# Altium schematic symbol library Connectors.SchLib: 74 symbols
Pins are listed as number, name and electrical type; pins without a type are passive.

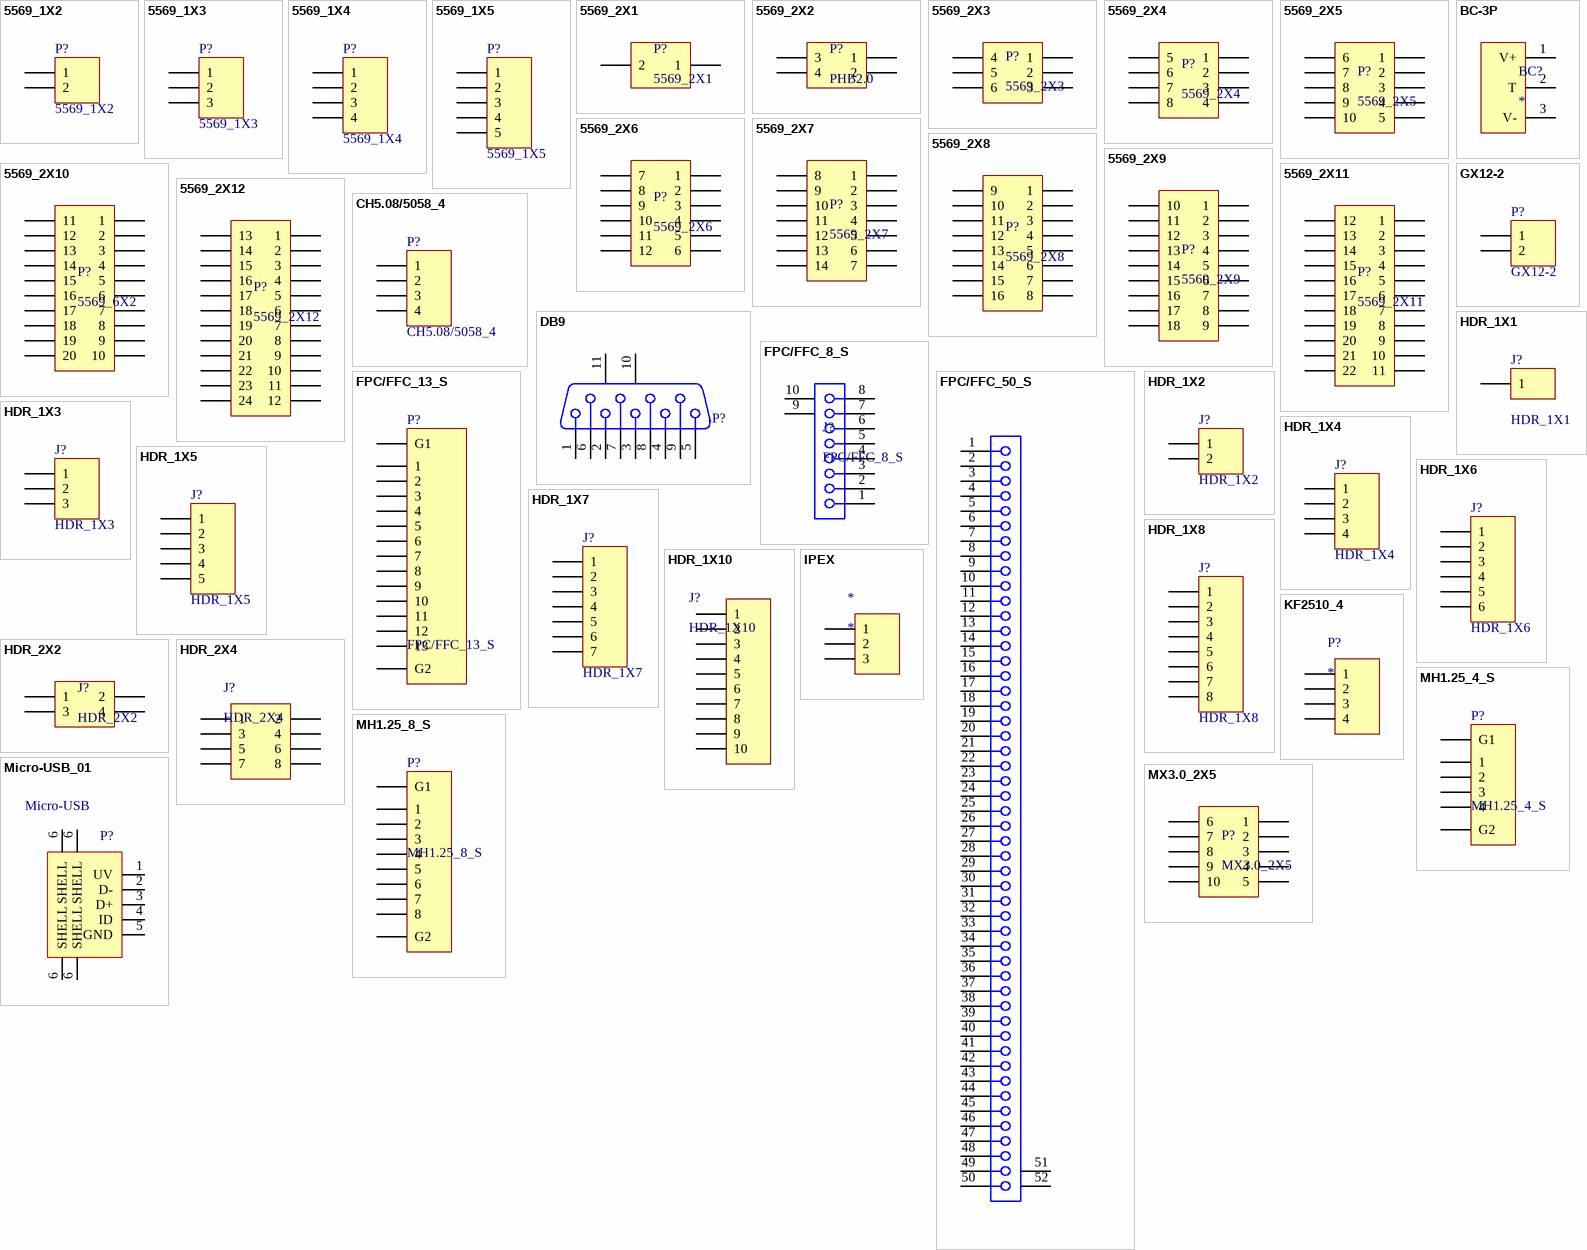
[diagram p0: symbols 5569_1X2 to MX3.0_2X5]

## 5569_1X2
designator P?
5569 Connector, 2-Pin, Single row; LatestRevisionDate: 17-Jul-2002; LatestRevisionNote: Re-released for DXP Platform.; Publisher: Altium Limited
footprint 5569_1X2_R (5569 Connector, 2-Pin, Single row, Right Angle)
pins: 1, 2

## 5569_1X3
designator P?
5569 Connector, 3-Pin, Single row; LatestRevisionDate: 17-Jul-2002; LatestRevisionNote: Re-released for DXP Platform.; Publisher: Altium Limited
footprint 5569_1X3_R (5569 Connector, 3-Pin, Single row, Right Angle)
pins: 1, 2, 3

## 5569_1X4
designator P?
5569 Connector, 4-Pin, Single row; LatestRevisionDate: 17-Jul-2002; LatestRevisionNote: Re-released for DXP Platform.; Publisher: Altium Limited
footprint 5569_1X4_R (5569 Connector, 4-Pin, Single row, Right Angle)
pins: 1, 2, 3, 4

## 5569_1X5
designator P?
5569 Connector, 5-Pin, Single row; LatestRevisionDate: 17-Jul-2002; LatestRevisionNote: Re-released for DXP Platform.; Publisher: Altium Limited
footprint 5569_1X5_R (5569 Connector, 5-Pin, Single row, Right Angle)
pins: 1, 2, 3, 4, 5

## 5569_2X1
designator P?
5569 Connector, 1-Pin, Dual row
footprint 5569_2X1_R (5569 Connector, 1-Pin, Dual row, Right Angle)
footprint 5569_2X1_V (5569 Connector, 1-Pin, Dual row, Vertical)
pins: 1, 2

## 5569_2X2
designator P?, comment PHB2.0
5569 Connector, 2-Pin, Dual row
footprint 5569_2X2_R (5569 Connector, 2-Pin, Dual row, Right Angle)
footprint 5569_2X2_V (5569 Connector, 2-Pin, Dual row, Vertical)
pins: 1, 2, 3, 4

## 5569_2X3
designator P?
5569 Connector, 3-Pin, Dual row
footprint 5569_2X3_R (5569 Connector, 3-Pin, Dual row, Right Angle)
footprint 5569_2X3_V (5569 Connector, 3-Pin, Dual row, Vertical)
pins: 1, 2, 3, 4, 5, 6

## 5569_2X4
designator P?
5569 Connector, 4-Pin, Dual row
footprint 5569_2X4_R (5569 Connector, 4-Pin, Dual row, Right Angle)
footprint 5569_2X4_V (5569 Connector, 4-Pin, Dual row, Vertical)
pins: 1, 2, 3, 4, 5, 6, 7, 8

## 5569_2X5
designator P?
5569 Connector, 5-Pin, Dual row
footprint 5569_2X5_R (5569 Connector, 5-Pin, Dual row, Right Angle)
footprint 5569_2X5_V (5569 Connector, 5-Pin, Dual row, Vertical)
pins: 1, 2, 3, 4, 5, 6, 7, 8, 9, 10

## 5569_2X6
designator P?
5569 Connector, 6-Pin, Dual row
footprint 5569_2X6_R (5569 Connector, 6-Pin, Dual row, Right Angle)
footprint 5569_2X6_V (5569 Connector, 6-Pin, Dual row, Vertical)
pins: 1, 2, 3, 4, 5, 6, 7, 8, 9, 10, 11, 12

## 5569_2X7
designator P?
5569 Connector, 7-Pin, Dual row
footprint 5569_2X7_R (5569 Connector, 7-Pin, Dual row, Right Angle)
footprint 5569_2X7_V (5569 Connector, 7-Pin, Dual row, Vertical)
pins: 1, 2, 3, 4, 5, 6, 7, 8, 9, 10, 11, 12, 13, 14

## 5569_2X8
designator P?
5569 Connector, 8-Pin, Dual row
footprint 5569_2X8_R (5569 Connector, 8-Pin, Dual row, Right Angle)
footprint 5569_2X8_V (5569 Connector, 8-Pin, Dual row, Vertical)
pins: 1, 2, 3, 4, 5, 6, 7, 8, 9, 10, 11, 12, 13, 14, 15, 16

## 5569_2X9
designator P?
5569 Connector, 9-Pin, Dual row
footprint 5569_2X9_R (5569 Connector, 9-Pin, Dual row, Right Angle)
footprint 5569_2X9_V (5569 Connector, 9-Pin, Dual row, Vertical)
pins: 1, 2, 3, 4, 5, 6, 7, 8, 9, 10, 11, 12, 13, 14, 15, 16, 17, 18

## 5569_2X10
designator P?, comment 5569_6X2
5569 Connector, 10-Pin, Dual row
footprint 5569_2X10_R (5569 Connector, 10-Pin, Dual row, Right Angle)
footprint 5569_2X10_V (5569 Connector, 10-Pin, Dual row, Vertical)
pins: 1, 2, 3, 4, 5, 6, 7, 8, 9, 10, 11, 12, 13, 14, 15, 16, 17, 18, 19, 20

## 5569_2X11
designator P?
5569 Connector, 11-Pin, Dual row
footprint 5569_2X11_R (5569 Connector, 11-Pin, Dual row, Right Angle)
footprint 5569_2X11_V (5569 Connector, 11-Pin, Dual row, Vertical)
pins: 1, 2, 3, 4, 5, 6, 7, 8, 9, 10, 11, 12, 13, 14, 15, 16, 17, 18, 19, 20, 21, 22

## 5569_2X12
designator P?
5569 Connector, 12-Pin, Dual row
footprint 5569_2X12_R (5569 Connector, 12-Pin, Dual row, Right Angle)
footprint 5569_2X12_V (5569 Connector, 12-Pin, Dual row, Vertical)
pins: 1, 2, 3, 4, 5, 6, 7, 8, 9, 10, 11, 12, 13, 14, 15, 16, 17, 18, 19, 20, 21, 22, 23, 24

## BC-3P
designator BC?
Battery connector, 3 Pin
footprint BC-3P_3.0PHX6.2H_SR (Battery connector, 3 Pin, 3.0mm Pitch, 5.4mm Hight, Surface mount, Right angle)
pins: 1 V+ (power), 2 T (power), 3 V- (power)

## CH5.08/5058_4
designator P?
CH Connector, 5.08mm Pitch, 4-Pin; LatestRevisionDate: 17-Jul-2002; LatestRevisionNote: Re-released for DXP Platform.; Publisher: Altium Limited
footprint CH5.08/5058_4_V (CH5.08/5058 Connector, 4-Pin, Vertical)
pins: 1, 2, 3, 4

## DB9
designator P?  (value not drawn)
footprint DB9_R_Female
pins: 1, 2, 3, 4, 5, 6, 7, 8, 9, 10 MH1, 11 MH2

## FPC/FFC_8_S
designator J?
FPC/FFC Connector, 8-Pin
footprint FPC/FFC1.0_8_SR (FPC/FFC Connector，1.0mm Pitch，8Pin，Surface mount, Right Angle)
pins: 1, 2, 3, 4, 5, 6, 7, 8, 9 MH1, 10 MH2

## FPC/FFC_13_S
designator P?
FPC/FFC Connector, 13-Pin; LatestRevisionDate: 17-Jul-2002; LatestRevisionNote: Re-released for DXP Platform.; Publisher: Altium Limited
signal-integrity model Connector
footprint FFC/FPC1.0_13_R
pins: 1, 2, 3, 4, 5, 6, 7, 8, 9, 10, 11, 12, 13, G1, G2

## FPC/FFC_50_S
designator J?
FPC/FFC Connector, 50-Pin; PCB_Layout: Complies with manufacturer's FFC recommendation.; Published: 30-May-2008; DatasheetVersion: Aug-2006; PackageVersion: Jan-2004; PackageReference: 541045096; Publisher: Altium Limited; ComponentLink1Description: Manufacturer Link; ComponentLink1URL: http://www.molex.com/; ComponentLink2Description: Datasheet; ComponentLink2URL: http://www.molex.com/pdm_docs/ps/PS-54104-069.pdf; ComponentLink3Description: Packaging Specification; ComponentLink3URL: http://www.molex.com/pdm_docs/sd/541045031_sd.pdf
signal-integrity model FPC-FFC
footprint FFC/FPC0.5_50_R
pins: 1, 2, 3, 4, 5, 6, 7, 8, 9, 10, 11, 12, 13, 14, 15, 16, 17, 18, 19, 20, 21, 22, 23, 24, 25, 26, 27, 28, 29, 30, 31, 32, 33, 34, 35, 36, 37, 38, 39, 40, 41, 42, 43, 44, 45, 46, 47, 48, 49, 50, 51 MH1, 52 MH2

## GX12-2
designator P?
GX12, 2-Pin, Single row; LatestRevisionDate: 17-Jul-2002; LatestRevisionNote: Re-released for DXP Platform.; Publisher: Altium Limited
signal-integrity model Connector
footprint GX12_2_R
pins: 1, 2

## HDR_1X1
designator J?
Header, 2-Pin, Single row; LatestRevisionDate: 17-Jul-2002; LatestRevisionNote: Re-released for DXP Platform.; Publisher: Altium Limited
signal-integrity model Connector
footprint HDR2.54_1X1_V
pins: 1

## HDR_1X2
designator J?
Header, 2-Pin, Single row; LatestRevisionDate: 17-Jul-2002; LatestRevisionNote: Re-released for DXP Platform.; Publisher: Altium Limited
signal-integrity model Connector
footprint HDR2.54_1X2_V (Connector; Header; 2 Position)
pins: 1, 2

## HDR_1X3
designator J?
Header, 3-Pin, Single row; LatestRevisionDate: 17-Jul-2002; LatestRevisionNote: Re-released for DXP Platform.; Publisher: Altium Limited
signal-integrity model Connector
footprint HDR2.54_1X3_V (Connector; Header; 3 Position)
pins: 1, 2, 3

## HDR_1X4
designator J?
Header, 4-Pin, Single row; LatestRevisionDate: 17-Jul-2002; LatestRevisionNote: Re-released for DXP Platform.; Publisher: Altium Limited
signal-integrity model Connector
footprint HDR2.54_1X4_V (Connector; Header; 4 Position)
pins: 1, 2, 3, 4

## HDR_1X5
designator J?
Header, 5-Pin, Single row; LatestRevisionDate: 17-Jul-2002; LatestRevisionNote: Re-released for DXP Platform.; Publisher: Altium Limited
signal-integrity model Connector
footprint HDR2.54_1X5_V (Connector; Header; 5 Position)
pins: 1, 2, 3, 4, 5

## HDR_1X6
designator J?
Header, 6-Pin, Single row; LatestRevisionDate: 17-Jul-2002; LatestRevisionNote: Re-released for DXP Platform.; Publisher: Altium Limited
signal-integrity model Connector
footprint HDR2.54_1X6_V (Connector; Header; 6 Position)
pins: 1, 2, 3, 4, 5, 6

## HDR_1X7
designator J?
Header, 7-Pin, Single row; LatestRevisionDate: 17-Jul-2002; LatestRevisionNote: Re-released for DXP Platform.; Publisher: Altium Limited
signal-integrity model Connector
footprint HDR2.54_1X7_V (Connector; Header; 7 Position)
pins: 1, 2, 3, 4, 5, 6, 7

## HDR_1X8
designator J?
Header, 8-Pin, Single row; LatestRevisionDate: 17-Jul-2002; LatestRevisionNote: Re-released for DXP Platform.; Publisher: Altium Limited
signal-integrity model Connector
footprint HDR2.54_1X8_V (Connector; Header; 8 Position)
pins: 1, 2, 3, 4, 5, 6, 7, 8

## HDR_1X10
designator J?
Header, 10-Pin, Single row
footprint HDR2.54_1X10_V
pins: 1, 2, 3, 4, 5, 6, 7, 8, 9, 10

## HDR_2X2
designator J?
Header, 4-Pin, dual row
footprint HDR2.54_2X2_V (Header, 2.54mm Pitch，8-Pin, Dual row, Vertical)
pins: 1, 2, 3, 4

## HDR_2X4
designator J?
Header, 8-Pin, dual row
footprint HDR2.54_2X4_V
pins: 1, 2, 3, 4, 5, 6, 7, 8

## IPEX
designator *
footprint IPEX
pins: 1, 2, 3

## KF2510_4
designator P?
KF2510 Connector, 4Pin
footprint KF2510_4_V (KF2510 Connnector, 2.54mm pitch, 4Pin, Vertical)
pins: 1, 2, 3, 4

## MH1.25_4_S
designator P?
SH/MH Connector, 1.25mm Pitch, 4-Pin, Surface mount; LatestRevisionDate: 17-Jul-2002; LatestRevisionNote: Re-released for DXP Platform.; Publisher: Altium Limited
footprint SH1.25_4_SR (SH Connector, 1.25mm Pitch, 4 Pin, Surface mount, Right angle)
pins: 1, 2, 3, 4, 5 G1, 6 G2

## MH1.25_8_S
designator P?
SH/MH Connector, 1.25mm Pitch, 8-Pin, Surface mount; LatestRevisionDate: 17-Jul-2002; LatestRevisionNote: Re-released for DXP Platform.; Publisher: Altium Limited
footprint MH1.25_8_SR (SH/MH Connector, 1.25mm Pitch, 8 Pin, Surface mount, Right angle)
pins: 1, 2, 3, 4, 5, 6, 7, 8, 9 G1, 10 G2

## Micro-USB_01
designator P?, comment Micro-USB
Micro-USB Receptacle
footprint Micro-USB_B_SR_01 (Micro-USB, Type B Receptacle, Bottom Mount, Surface Mount)
pins: 1 UV, 2 D-, 3 D+, 4 ID, 5 GND, 6 SHELL, 6 SHELL, 6 SHELL, 6 SHELL

## MX3.0_2X5
designator P?
MX3.0 Connector , 5-Pin, Dual row
footprint MX3.0_2X5_R (MX3.0 Connector , 5-Pin, Dual row, Right angle)
pins: 1, 2, 3, 4, 5, 6, 7, 8, 9, 10

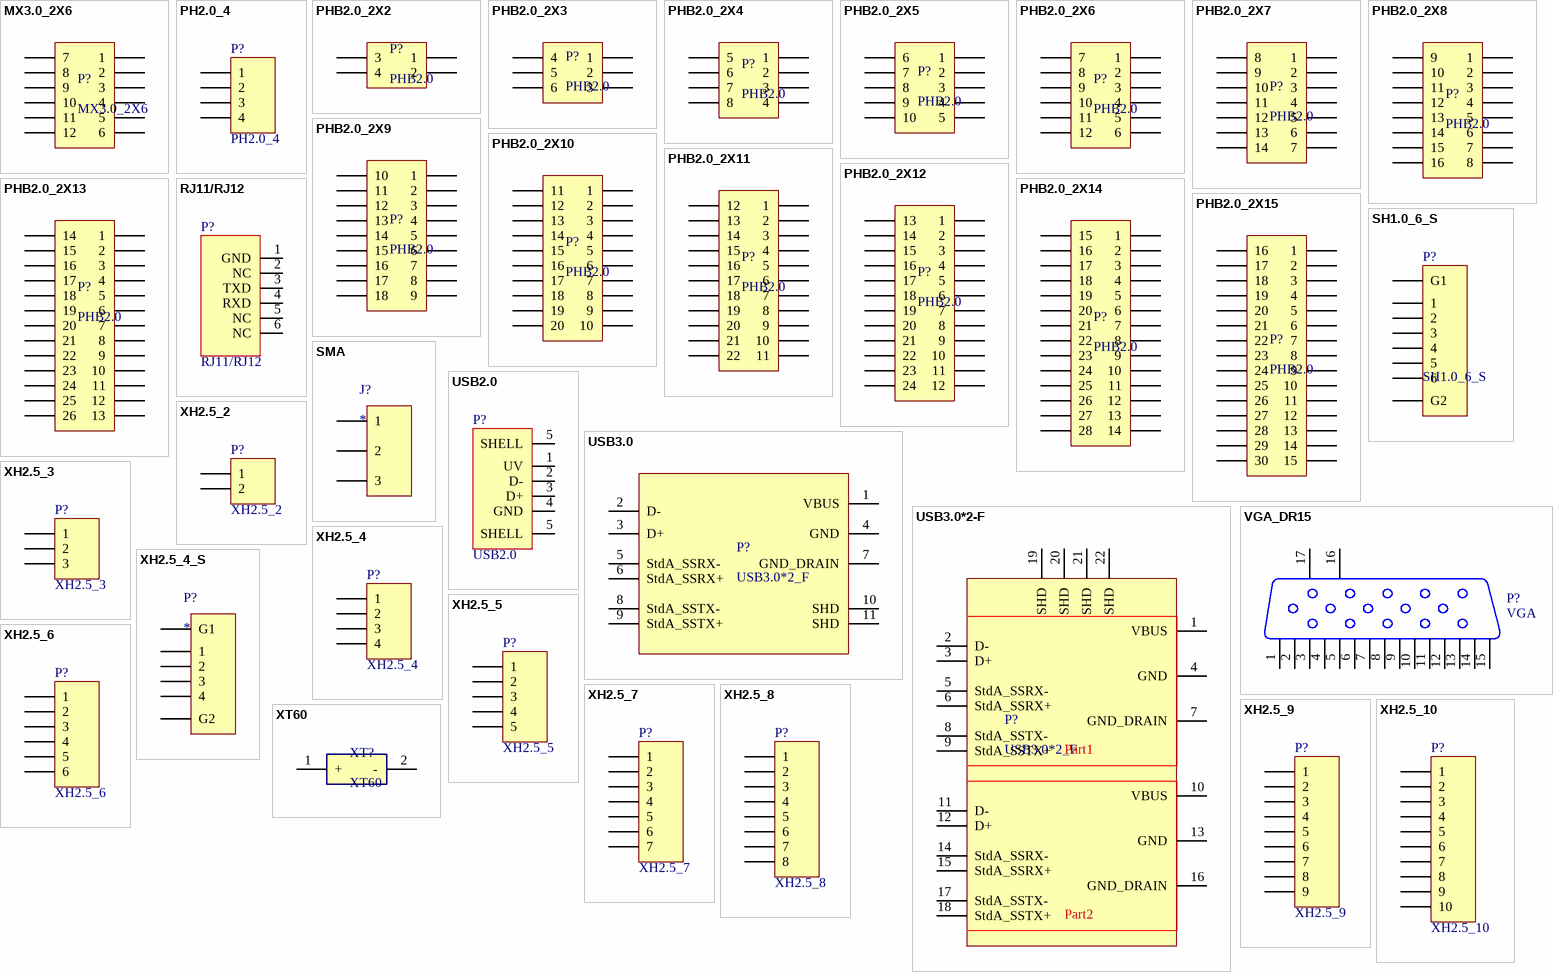
[diagram p1: symbols MX3.0_2X6 to XT60]

## MX3.0_2X6
designator P?
MX3.0 Connector , 6-Pin, Dual row
footprint MX3.0_2X6_V (MX3.0 Connector , 6-Pin, Dual row, Vertical)
pins: 1, 2, 3, 4, 5, 6, 7, 8, 9, 10, 11, 12

## PH2.0_4
designator P?
PH Connector, 2.0mm Pitch, 4-Pin; LatestRevisionDate: 17-Jul-2002; LatestRevisionNote: Re-released for DXP Platform.; Publisher: Altium Limited
footprint PH2.0_4_V (PH Connector, 2.0mm Pitch, 4-Pin, Vertical)
pins: 1, 2, 3, 4

## PHB2.0_2X2
designator P?, comment PHB2.0
PHB2.0 , 2-Pin, Dual row
footprint PHB2.0_2X2_V (PHB2.0 , 2-Pin, Dual row, Vertical)
footprint PHB2.0_2X2_R (PHB2.0 , 2-Pin, Dual row, Right Angle)
pins: 1, 2, 3, 4

## PHB2.0_2X3
designator P?, comment PHB2.0
PHB2.0 , 3-Pin, Dual row
footprint PHB2.0_2X3_V (PHB2.0 , 3-Pin, Dual row, Vertical)
footprint PHB2.0_2X3_R (PHB2.0 , 3-Pin, Dual row, Right Angle)
pins: 1, 2, 3, 4, 5, 6

## PHB2.0_2X4
designator P?, comment PHB2.0
PHB2.0 , 4-Pin, Dual row
footprint PHB2.0_2X4_V (PHB2.0 , 4-Pin, Dual row, Vertical)
footprint PHB2.0_2X4_R (PHB2.0 , 4-Pin, Dual row, Right Angle)
pins: 1, 2, 3, 4, 5, 6, 7, 8

## PHB2.0_2X5
designator P?, comment PHB2.0
PHB2.0 , 5-Pin, Dual row
footprint PHB2.0_2X5_V (PHB2.0 , 5-Pin, Dual row, Vertical)
footprint PHB2.0_2X5_R (PHB2.0 , 5-Pin, Dual row, Right Angle)
pins: 1, 2, 3, 4, 5, 6, 7, 8, 9, 10

## PHB2.0_2X6
designator P?, comment PHB2.0
PHB2.0 , 6-Pin, Dual row
footprint PHB2.0_2X6_V (PHB2.0 , 6-Pin, Dual row, Vertical)
footprint PHB2.0_2X6_R (PHB2.0 , 6-Pin, Dual row, Right Angle)
pins: 1, 2, 3, 4, 5, 6, 7, 8, 9, 10, 11, 12

## PHB2.0_2X7
designator P?, comment PHB2.0
PHB2.0 , 7-Pin, Dual row
footprint PHB2.0_2X7_V (PHB2.0 , 7-Pin, Dual row, Vertical)
footprint PHB2.0_2X7_R (PHB2.0 , 7-Pin, Dual row, Right Angle)
pins: 1, 2, 3, 4, 5, 6, 7, 8, 9, 10, 11, 12, 13, 14

## PHB2.0_2X8
designator P?, comment PHB2.0
PHB2.0 , 8-Pin, Dual row
footprint PHB2.0_2X8_V (PHB2.0 , 8-Pin, Dual row, Vertical)
footprint PHB2.0_2X8_R (PHB2.0 , 8-Pin, Dual row, Right Angle)
pins: 1, 2, 3, 4, 5, 6, 7, 8, 9, 10, 11, 12, 13, 14, 15, 16

## PHB2.0_2X9
designator P?, comment PHB2.0
PHB2.0 , 9-Pin, Dual row
footprint PHB2.0_2X9_V (PHB2.0 , 9-Pin, Dual row, Vertical)
footprint PHB2.0_2X9_R (PHB2.0 , 9-Pin, Dual row, Right Angle)
pins: 1, 2, 3, 4, 5, 6, 7, 8, 9, 10, 11, 12, 13, 14, 15, 16, 17, 18

## PHB2.0_2X10
designator P?, comment PHB2.0
PHB2.0 , 10-Pin, Dual row
footprint PHB2.0_2X10_V (PHB2.0 , 10-Pin, Dual row, Vertical)
footprint PHB2.0_2X10_R (PHB2.0 , 10-Pin, Dual row, Right Angle)
pins: 1, 2, 3, 4, 5, 6, 7, 8, 9, 10, 11, 12, 13, 14, 15, 16, 17, 18, 19, 20

## PHB2.0_2X11
designator P?, comment PHB2.0
PHB2.0 , 11-Pin, Dual row
footprint PHB2.0_2X11_V (PHB2.0 , 11-Pin, Dual row, Vertical)
footprint PHB2.0_2X11_R (PHB2.0 , 11-Pin, Dual row, Right Angle)
pins: 1, 2, 3, 4, 5, 6, 7, 8, 9, 10, 11, 12, 13, 14, 15, 16, 17, 18, 19, 20, 21, 22

## PHB2.0_2X12
designator P?, comment PHB2.0
PHB2.0 , 12-Pin, Dual row
footprint PHB2.0_2X12_V (PHB2.0 , 12-Pin, Dual row, Vertical)
footprint PHB2.0_2X12_R (PHB2.0 , 12-Pin, Dual row, Right Angle)
pins: 1, 2, 3, 4, 5, 6, 7, 8, 9, 10, 11, 12, 13, 14, 15, 16, 17, 18, 19, 20, 21, 22, 23, 24

## PHB2.0_2X13
designator P?, comment PHB2.0
PHB2.0 , 13-Pin, Dual row
footprint PHB2.0_2X13_V (PHB2.0 , 13-Pin, Dual row, Vertical)
footprint PHB2.0_2X13_R (PHB2.0 , 13-Pin, Dual row, Right Angle)
pins: 1, 2, 3, 4, 5, 6, 7, 8, 9, 10, 11, 12, 13, 14, 15, 16, 17, 18, 19, 20, 21, 22, 23, 24, 25, 26

## PHB2.0_2X14
designator P?, comment PHB2.0
PHB2.0 , 14-Pin, Dual row
footprint PHB2.0_2X14_V (PHB2.0 , 14-Pin, Dual row, Vertical)
footprint PHB2.0_2X14_R (PHB2.0 , 14-Pin, Dual row, Right Angle)
pins: 1, 2, 3, 4, 5, 6, 7, 8, 9, 10, 11, 12, 13, 14, 15, 16, 17, 18, 19, 20, 21, 22, 23, 24, 25, 26, 27, 28

## PHB2.0_2X15
designator P?, comment PHB2.0
PHB2.0 , 15-Pin, Dual row
footprint PHB2.0_2X15_V (PHB2.0 , 15-Pin, Dual row, Vertical)
footprint PHB2.0_2X15_R (PHB2.0 , 15-Pin, Dual row, Right Angle)
pins: 1, 2, 3, 4, 5, 6, 7, 8, 9, 10, 11, 12, 13, 14, 15, 16, 17, 18, 19, 20, 21, 22, 23, 24, 25, 26, 27, 28, 29, 30

## RJ11/RJ12
designator P?
footprint RJ11/RJ12
pins: 1 GND, 2 NC, 3 TXD, 4 RXD, 5 NC, 6 NC

## SH1.0_6_S
designator P?
SH Connector, 1.0mm Pitch, 6-Pin, Surface mount; LatestRevisionDate: 17-Jul-2002; LatestRevisionNote: Re-released for DXP Platform.; Publisher: Altium Limited
footprint SH1.0_6_SR (SH Connector, 1.0mm Pitch,  6 pin, Sueface mount, Right angle)
pins: 1, 2, 3, 4, 5, 6, G1, G2

## SMA
designator J?
SMA RF Connector
footprint SMA-KE_6.5X6.5X13.5 (SMA Receptacle, Edge mount, 6.5mmX6.5mm)
pins: 1, 2, 3

## USB2.0
designator P?
footprint USB2.0_A_R
pins: 1 UV, 2 D-, 3 D+, 4 GND, 5 SHELL, 5 SHELL

## USB3.0
designator P?, comment USB3.0*2_F
USB3.0 I/O Receptacle
footprint USB3.0*2_A_R
pins: 1 VBUS, 2 D-, 3 D+, 4 GND, 5 StdA_SSRX-, 6 StdA_SSRX+, 7 GND_DRAIN, 8 StdA_SSTX-, 9 StdA_SSTX+, 10 SHD, 11 SHD

## USB3.0*2-F
designator P?, comment USB3.0*2_F
USB3.0 I/O Receptacle,Dual port stacked
footprint USB3.0*2_A_R
pins: 1 VBUS, 2 D-, 3 D+, 4 GND, 5 StdA_SSRX-, 6 StdA_SSRX+, 7 GND_DRAIN, 8 StdA_SSTX-, 9 StdA_SSTX+, 10 VBUS, 11 D-, 12 D+, 13 GND, 14 StdA_SSRX-, 15 StdA_SSRX+, 16 GND_DRAIN, 17 StdA_SSTX-, 18 StdA_SSTX+, 19 SHD, 20 SHD, 21 SHD, 22 SHD
text: Part1; Part2

## VGA_DR15
designator P?, comment VGA
Receptacle Assembly, 15 Position, Right Angle; PackageDocument: O; Positions: 15; Published: 15-Jun-2001; LatestRevisionDate: 17-Jul-2002; LatestRevisionNote: Re-released for DXP Platform.; DatasheetDocument: 1-Sep-99; PackageReference: 788757; Publisher: Altium Limited; Orientation: Right Angle; Gender: Receptacle
signal-integrity model Connector
footprint VGA_R_Female
pins: 1, 2, 3, 4, 5, 6, 7, 8, 9, 10 (power), 11 (power), 12 (power), 13 (power), 14 (power), 15 (power), 16 MH1, 17 MH2

## XH2.5_2
designator P?
XH Connector, 2.5mm Pitch, 2-Pin; LatestRevisionDate: 17-Jul-2002; LatestRevisionNote: Re-released for DXP Platform.; Publisher: Altium Limited
footprint XH2.5_2_V (XH Connector, 2.5mm Pitch, 2-Pin, Vertical)
pins: 1, 2

## XH2.5_3
designator P?
XH Connector, 2.5mm Pitch, 3-Pin; LatestRevisionDate: 17-Jul-2002; LatestRevisionNote: Re-released for DXP Platform.; Publisher: Altium Limited
footprint XH2.5_3_V (XH Connector, 2.5mm Pitch, 3-Pin, Vertical)
pins: 1, 2, 3

## XH2.5_4
designator P?
XH Connector, 2.5mm Pitch, 4-Pin; LatestRevisionDate: 17-Jul-2002; LatestRevisionNote: Re-released for DXP Platform.; Publisher: Altium Limited
footprint XH2.5_4_V (XH Connector, 2.5mm Pitch, 4-Pin, Vertical)
pins: 1, 2, 3, 4

## XH2.5_4_S
designator P?
XH Connector, 2.5mm Pitch, 4-Pin, Surface mount
footprint XH2.5_4_SR (XH Connector, 2.5mm Pitch,  4pin, Sueface mount, Right angle)
pins: 1, 2, 3, 4, G1, G2

## XH2.5_5
designator P?
XH Connector, 2.5mm Pitch, 5-Pin; LatestRevisionDate: 17-Jul-2002; LatestRevisionNote: Re-released for DXP Platform.; Publisher: Altium Limited
footprint XH2.5_5_V (XH Connector, 2.5mm Pitch, 5-Pin, Vertical)
pins: 1, 2, 3, 4, 5

## XH2.5_6
designator P?
XH Connector, 2.5mm Pitch, 6-Pin; LatestRevisionDate: 17-Jul-2002; LatestRevisionNote: Re-released for DXP Platform.; Publisher: Altium Limited
footprint XH2.5_6_V (XH Connector, 2.5mm Pitch, 6-Pin, Vertical)
pins: 1, 2, 3, 4, 5, 6

## XH2.5_7
designator P?
XH Connector, 2.5mm Pitch, 7-Pin; LatestRevisionDate: 17-Jul-2002; LatestRevisionNote: Re-released for DXP Platform.; Publisher: Altium Limited
footprint XH2.5_7_V (XH Connector, 2.5mm Pitch, 7-Pin, Vertical)
pins: 1, 2, 3, 4, 5, 6, 7

## XH2.5_8
designator P?
XH Connector, 2.5mm Pitch, 8-Pin; LatestRevisionDate: 17-Jul-2002; LatestRevisionNote: Re-released for DXP Platform.; Publisher: Altium Limited
footprint XH2.5_8_V (XH Connector, 2.5mm Pitch, 8-Pin, Vertical)
pins: 1, 2, 3, 4, 5, 6, 7, 8

## XH2.5_9
designator P?
XH Connector, 2.5mm Pitch, 9-Pin; LatestRevisionDate: 17-Jul-2002; LatestRevisionNote: Re-released for DXP Platform.; Publisher: Altium Limited
footprint XH2.5_9_V (XH Connector, 2.5mm Pitch, 9-Pin, Vertical)
pins: 1, 2, 3, 4, 5, 6, 7, 8, 9

## XH2.5_10
designator P?
XH Connector, 2.5mm Pitch, 10-Pin; LatestRevisionDate: 17-Jul-2002; LatestRevisionNote: Re-released for DXP Platform.; Publisher: Altium Limited
footprint XH2.5_10_V (XH Connector, 2.5mm Pitch, 10-Pin, Vertical)
pins: 1, 2, 3, 4, 5, 6, 7, 8, 9, 10

## XT60
designator XT?
footprint XT60PB
footprint XT60PW
pins: 1 +, 2 -